# Altium schematic symbol library TitleBlock_FS.SchLib: 1 symbol
Pins are listed as number, name and electrical type; pins without a type are passive.

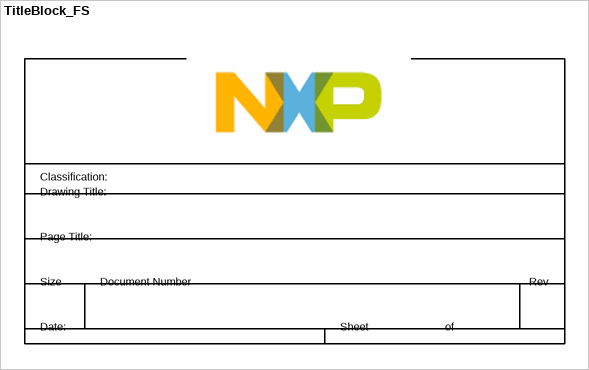
[diagram p0: symbol TitleBlock_FS]

## TitleBlock_FS
designator *?  (graphical)
text: Classification:; Drawing Title:; Page Title:; Size; Document Number; Rev; Date:; Sheet; of